# Altium footprint library XT9S20ANA12M.PcbLib: 1 footprints
Each footprint in its own frame and in the unit in brackets; x right, y up, seen from the top. Pads: shape width x height; smd on the part's side, far side on the other; paste and mask are expansions set on the pad; w line width, h text height; cw(c..) or ccw(c..) is an arc to the next point about the centre after c.
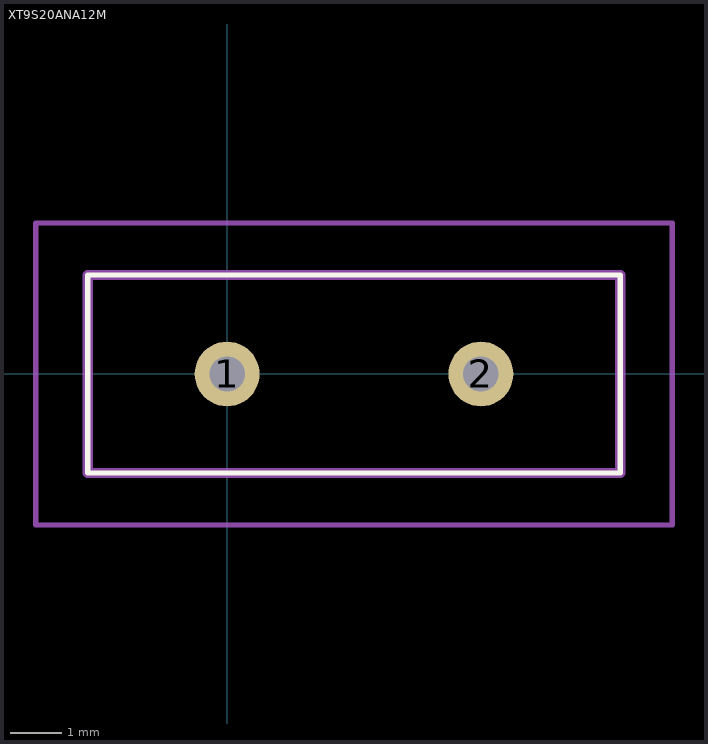
[diagram p0: the footprint, top view; thin cyan lines are the x and y axes]

## XT9S20ANA12M [mm]
pads (2):
  round 1.247 hole 0.68: 1(0,0) 2(4.88,0)
Top Overlay:
  lines w0.1: -2.68,-1.905 7.56,-1.905 7.56,1.905 -2.68,1.905 -2.68,-1.905
Mechanical 15:
  lines w0.2: -2.68,-1.905 7.56,-1.905 7.56,1.905 -2.68,1.905 -2.68,-1.905
Mechanical 20:
  lines w0.1: -3.68,-2.905 8.56,-2.905 8.56,2.905 -3.68,2.905 -3.68,-2.905
3D body "XT9S20ANA12M.stp": height 5.8, standoff -4.65, extent -10,-3.376 10,3.376